# Altium schematic symbol library Bruggelijkrichter.SchLib: 1 symbol
Pins are listed as number, name and electrical type; pins without a type are passive.

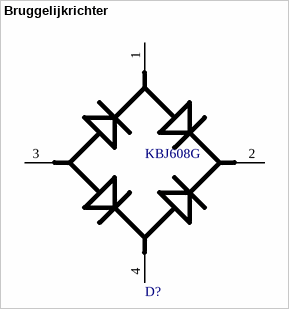
[diagram p0: symbol Bruggelijkrichter]

## Bruggelijkrichter
designator D?, comment KBJ608G
Manufacturer: Diodes; Max Junction Temp: +150°C; Max Surge Forward Current: 170A; Reverse Voltage: 800V; Peak Reverse Current: 5uA; Standoff Height: 3.3mm; Value: 80pF; Forward Current: 3A; Max Repetitive Reverse Voltage: 600V; Mouser Description: Bridge Rectifiers 6.0A 800V; Digikey Description: BRIDGE RECT 1PHASE 800V 6A KBJ; ComponentLink2Description: Datasheet; Manufacturer Part Number: KBJ608G; Device Class L1: Discrete Semiconductors; Octopart: https://octopart.com/kbj608g-diodes+inc.-13390835; Temperature Range Low: -65°C; Temperature: -65°C to +150°C; Automotive: No; ComponentLink2URL: https://www.diodes.com/assets/Datasheets/ds21207.pdf; RoHS: TRUE; Category: Diode; Lead Free: Yes; Footprint Url: https://www.diodes.com/assets/Package-Files/KBJ.pdf; Device Class L2: Diodes; Package: KBJ; Device Class L3: Rectifier Diodes; Capacitance: 80pF; Height: 19mm; Temperature Range High: +150°C
footprint FP-KBJ-MFG
pins: 1 +, 2 1 ~, 3 2 ~, 4 -